# EAGLE library part POLOLU-ASTAR-MICRO (library zigbee-dimmer-libs)
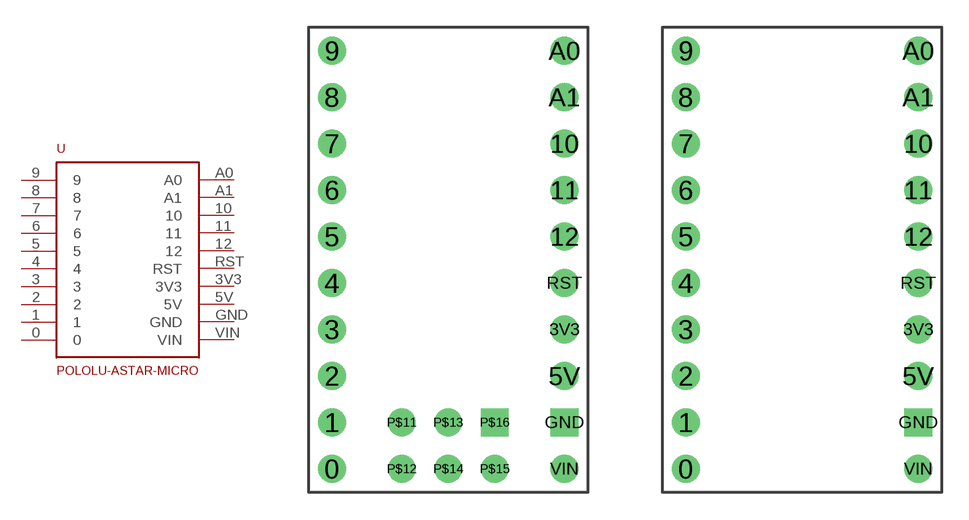
[diagram p0: symbol with the pads of POLOLU-ASTAR-MICRO; footprints POLOLU-ASTAR-MICRO, POLOLU-ASTAR_MICRO_MIN]

Designator prefix -

## POLOLU-ASTAR-MICRO  [POLOLU-ASTAR-MICRO]
0  0
1  1
2  2
3  3
3V3  3V3  pwr
4  4
5  5
5V  5V  pwr
6  6
7  7
8  8
9  9
10  10
11  11
12  12
A0  A0
A1  A1
GND  GND  pwr
RST  RST  in
VIN  VIN  pwr

## POLOLU-ASTAR-MICROMINIMAL  [POLOLU-ASTAR_MICRO_MIN]
Pads as for POLOLU-ASTAR-MICRO

## Footprint POLOLU-ASTAR-MICRO (pad centres in mm)
Description: This is a footprint for the Pololu A-Star micro
drill 1.016: 0 -6.35,-11.43; 1 -6.35,-8.89; 2 -6.35,-6.35; 3 -6.35,-3.81; 3V3 6.35,-3.81; 4 -6.35,-1.27; 5 -6.35,1.27; 5V 6.35,-6.35; 6 -6.35,3.81; 7 -6.35,6.35; 8 -6.35,8.89; 9 -6.35,11.43; 10 6.35,6.35; 11 6.35,3.81; 12 6.35,1.27; A0 6.35,11.43; A1 6.35,8.89; P$11 -2.54,-8.89; P$12 -2.54,-11.43; P$13 0,-8.89; P$14 0,-11.43; P$15 2.54,-11.43; RST 6.35,-1.27; VIN 6.35,-11.43
drill 1.016 square: GND 6.35,-8.89; P$16 2.54,-8.89

## Footprint POLOLU-ASTAR_MICRO_MIN (pad centres in mm)
drill 1.016: 0 -6.35,-11.43; 1 -6.35,-8.89; 2 -6.35,-6.35; 3 -6.35,-3.81; 3V3 6.35,-3.81; 4 -6.35,-1.27; 5 -6.35,1.27; 5V 6.35,-6.35; 6 -6.35,3.81; 7 -6.35,6.35; 8 -6.35,8.89; 9 -6.35,11.43; 10 6.35,6.35; 11 6.35,3.81; 12 6.35,1.27; A0 6.35,11.43; A1 6.35,8.89; RST 6.35,-1.27; VIN 6.35,-11.43
drill 1.016 square: GND 6.35,-8.89